# Altium schematic symbol library MOSFET_transistors.SchLib: 1 symbol
Pins are listed as number, name and electrical type; pins without a type are passive.

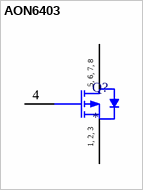
[diagram p0: symbol AON6403]

## AON6403
designator Q?
P-MOSFET; 67A; 30V; DFN5x6
footprint DFN5x6
pins: 1 S, 2 S, 3 S, 4 G, 5-6-7-8 D
text: 5, 6, 7, 8; 1, 2, 3